# Altium schematic symbol library ASPI-8040S-510M-T.SchLib: 1 symbol
Pins are listed as number, name and electrical type; pins without a type are passive.

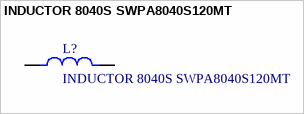
[diagram p0: symbol INDUCTOR 8040S SWPA8040S120MT]

## INDUCTOR 8040S SWPA8040S120MT
designator L?
SWPA8040S120MT SMD 8.0×8.0x4.0mm 8040S 12uH Â±20% 2.8A 142 mOhm SMT Shielded Wirewound Inductor; MF: Abracon LLC; MP: ASPI-8040S-510M-T; Purchase-URL: https://pricing.snapeda.com/search/part/ASPI-8040S-510M-T/?ref=eda; Value: *; SnapEDA_Link: https://www.snapeda.com/parts/ASPI-8040S-510M-T/Abracon+LLC/view-part/?ref=snap; Package: Nonstandard Abracon LLC; Check_prices: https://www.snapeda.com/parts/ASPI-8040S-510M-T/Abracon+LLC/view-part/?ref=eda; Availability: In Stock; Price: None
footprint IND_ASPI-8040S-510M-T
pins: 1, 2